# EAGLE library part POT_ALPHA (library wheat)
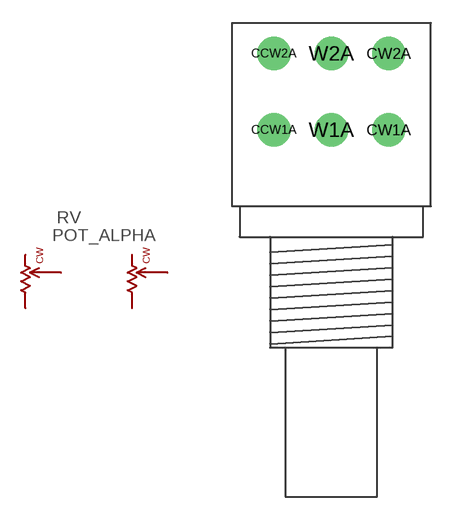
[diagram p149: symbol with the pads of POT_ALPHA; footprint POT_ALPHA]

Designator prefix RV

## POT_ALPHA  [POT_ALPHA]
CCW1A  CCW1  pas
CCW2A  CCW2  pas
CW1A  CW1  pas
CW2A  CW2  pas
W1A  W1  pas
W2A  W2  pas

## Footprint POT_ALPHA (pad centres in mm)
drill 1.27 pad 2.184: CCW1A -3.75,7; CCW2A -3.75,12; CW1A 3.75,7; CW2A 3.75,12; W1A 0,7; W2A 0,12